# Altium footprint library Texas Instruments Footprints.PcbLib: 429 footprints (part 8 of 32)
Each footprint in its own frame and in the unit in brackets; x right, y up, seen from the top. Pads: shape width x height; smd on the part's side, far side on the other; paste and mask are expansions set on the pad; w line width, h text height; cw(c..) or ccw(c..) is an arc to the next point about the centre after c.
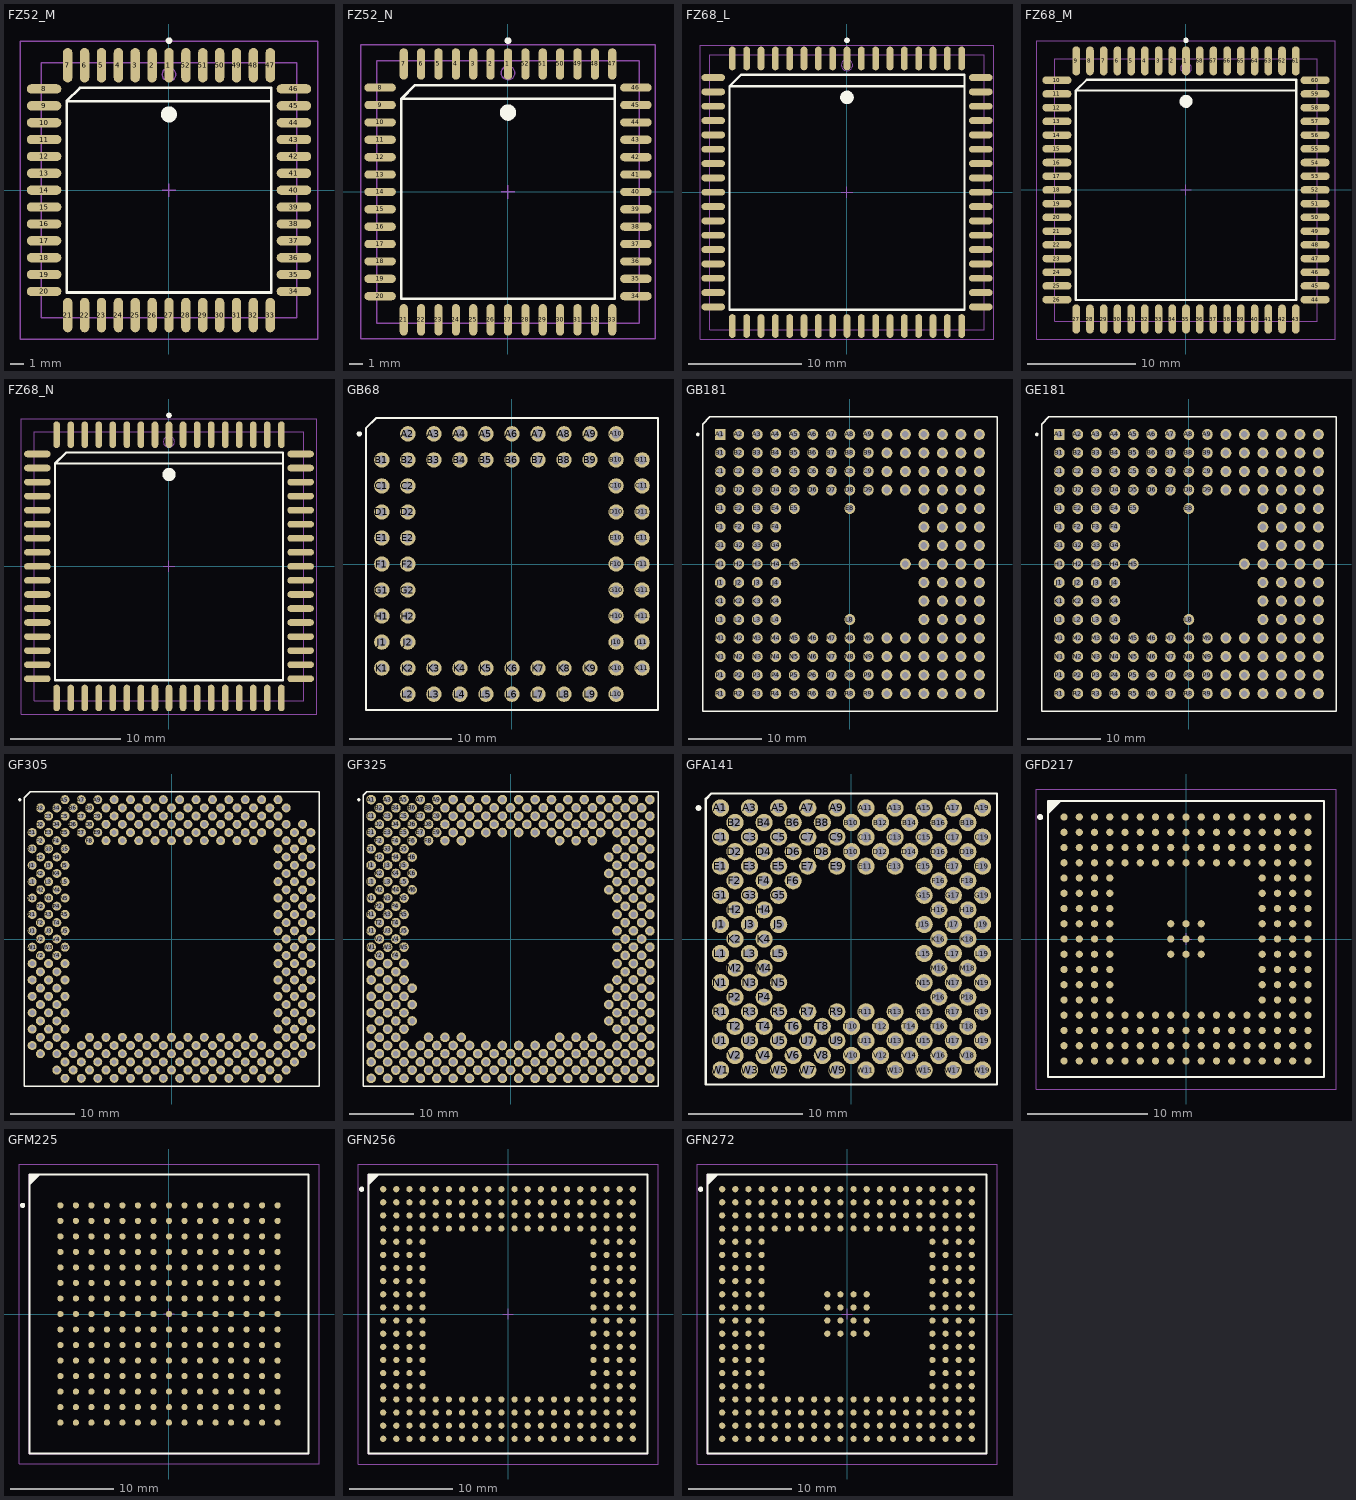
[diagram p7: the footprints below, top view; thin cyan lines are the x and y axes]

## FZ52_M [mm] "52-Pin Leaded Chip Carrier 1.27 mm Pitch, IPC Low Density"
height 4.57
pads (52):
  oval 0.7x2.6 smd: 1(0,9.4) 2(-1.27,9.4) 3(-2.54,9.4) 4(-3.81,9.4) 5(-5.08,9.4) 6(-6.35,9.4) 7(-7.62,9.4) 21(-7.62,-9.4) 22(-6.35,-9.4) 23(-5.08,-9.4) 24(-3.81,-9.4) 25(-2.54,-9.4) 26(-1.27,-9.4) 27(0,-9.4) 28(1.27,-9.4) 29(2.54,-9.4) 30(3.81,-9.4) 31(5.08,-9.4) 32(6.35,-9.4) 33(7.62,-9.4) 47(7.62,9.4) 48(6.35,9.4) 49(5.08,9.4) 50(3.81,9.4) 51(2.54,9.4) 52(1.27,9.4)
  oval 2.6x0.7 smd: 8(-9.4,7.62) 9(-9.4,6.35) 10(-9.4,5.08) 11(-9.4,3.81) 12(-9.4,2.54) 13(-9.4,1.27) 14(-9.4,0) 15(-9.4,-1.27) 16(-9.4,-2.54) 17(-9.4,-3.81) 18(-9.4,-5.08) 19(-9.4,-6.35) 20(-9.4,-7.62) 34(9.4,-7.62) 35(9.4,-6.35) 36(9.4,-5.08) 37(9.4,-3.81) 38(9.4,-2.54) 39(9.4,-1.27) 40(9.4,0) 41(9.4,1.27) 42(9.4,2.54) 43(9.4,3.81) 44(9.4,5.08) 45(9.4,6.35) 46(9.4,7.62)
Top Overlay:
  circle w0.25: c0,11.25 r0.125
  circle w0.6: c0,5.7 r0.3
  lines w0.2: 7.7,6.7 -7.7,6.7 ; -7.7,6.7 -6.7,7.7 7.7,7.7 7.7,-7.7 -7.7,-7.7 -7.7,6.7
Mechanical 13:
  circle w0.1: c0,8.7 r0.5
  lines w0.1: -9.6,-9.6 -9.6,9.6 9.6,9.6 9.6,-9.6 -9.6,-9.6
Mechanical 15:
  lines w0.1: -0.5,0 0.5,0 ; 0,-0.5 0,0.5 ; -11.2,-11.2 -11.2,11.2 11.2,11.2 11.2,-11.2 -11.2,-11.2
3D body: height 4.57, standoff 0, extent -9.6,-9.6 9.6,9.6

## FZ52_N [mm] "52-Pin Leaded Chip Carrier 1.27 mm Pitch, IPC Medium Density"
height 4.57
pads (52):
  oval 0.6x2.3 smd: 1(0,9.35) 2(-1.27,9.35) 3(-2.54,9.35) 4(-3.81,9.35) 5(-5.08,9.35) 6(-6.35,9.35) 7(-7.62,9.35) 21(-7.62,-9.35) 22(-6.35,-9.35) 23(-5.08,-9.35) 24(-3.81,-9.35) 25(-2.54,-9.35) 26(-1.27,-9.35) 27(0,-9.35) 28(1.27,-9.35) 29(2.54,-9.35) 30(3.81,-9.35) 31(5.08,-9.35) 32(6.35,-9.35) 33(7.62,-9.35) 47(7.62,9.35) 48(6.35,9.35) 49(5.08,9.35) 50(3.81,9.35) 51(2.54,9.35) 52(1.27,9.35)
  oval 2.3x0.6 smd: 8(-9.35,7.62) 9(-9.35,6.35) 10(-9.35,5.08) 11(-9.35,3.81) 12(-9.35,2.54) 13(-9.35,1.27) 14(-9.35,0) 15(-9.35,-1.27) 16(-9.35,-2.54) 17(-9.35,-3.81) 18(-9.35,-5.08) 19(-9.35,-6.35) 20(-9.35,-7.62) 34(9.35,-7.62) 35(9.35,-6.35) 36(9.35,-5.08) 37(9.35,-3.81) 38(9.35,-2.54) 39(9.35,-1.27) 40(9.35,0) 41(9.35,1.27) 42(9.35,2.54) 43(9.35,3.81) 44(9.35,5.08) 45(9.35,6.35) 46(9.35,7.62)
Top Overlay:
  circle w0.25: c0,11.05 r0.125
  circle w0.6: c0,5.8 r0.3
  lines w0.2: 7.8,6.8 -7.8,6.8 ; -7.8,6.8 -6.8,7.8 7.8,7.8 7.8,-7.8 -7.8,-7.8 -7.8,6.8
Mechanical 13:
  circle w0.1: c0,8.7 r0.5
  lines w0.1: -9.6,-9.6 -9.6,9.6 9.6,9.6 9.6,-9.6 -9.6,-9.6
Mechanical 15:
  lines w0.1: -0.5,0 0.5,0 ; 0,-0.5 0,0.5 ; -10.75,-10.75 -10.75,10.75 10.75,10.75 10.75,-10.75 -10.75,-10.75
3D body: height 4.57, standoff 0, extent -9.6,-9.6 9.6,9.6

## FZ68_L [mm] "68-Pin Leaded Chip Carrier 1.27 mm Pitch, IPC High Density"
height 4.57
pads (68):
  oval 0.6x2.1 smd: 1(0,11.85) 2(-1.27,11.85) 3(-2.54,11.85) 4(-3.81,11.85) 5(-5.08,11.85) 6(-6.35,11.85) 7(-7.62,11.85) 8(-8.89,11.85) 9(-10.16,11.85) 27(-10.16,-11.85) 28(-8.89,-11.85) 29(-7.62,-11.85) 30(-6.35,-11.85) 31(-5.08,-11.85) 32(-3.81,-11.85) 33(-2.54,-11.85) 34(-1.27,-11.85) 35(0,-11.85) 36(1.27,-11.85) 37(2.54,-11.85) 38(3.81,-11.85) 39(5.08,-11.85) 40(6.35,-11.85) 41(7.62,-11.85) 42(8.89,-11.85) 43(10.16,-11.85) 61(10.16,11.85) 62(8.89,11.85) 63(7.62,11.85) 64(6.35,11.85) 65(5.08,11.85) 66(3.81,11.85) 67(2.54,11.85) 68(1.27,11.85)
  oval 2.1x0.6 smd: 10(-11.85,10.16) 11(-11.85,8.89) 12(-11.85,7.62) 13(-11.85,6.35) 14(-11.85,5.08) 15(-11.85,3.81) 16(-11.85,2.54) 17(-11.85,1.27) 18(-11.85,0) 19(-11.85,-1.27) 20(-11.85,-2.54) 21(-11.85,-3.81) 22(-11.85,-5.08) 23(-11.85,-6.35) 24(-11.85,-7.62) 25(-11.85,-8.89) 26(-11.85,-10.16) 44(11.85,-10.16) 45(11.85,-8.89) 46(11.85,-7.62) 47(11.85,-6.35) 48(11.85,-5.08) 49(11.85,-3.81) 50(11.85,-2.54) 51(11.85,-1.27) 52(11.85,0) 53(11.85,1.27) 54(11.85,2.54) 55(11.85,3.81) 56(11.85,5.08) 57(11.85,6.35) 58(11.85,7.62) 59(11.85,8.89) 60(11.85,10.16)
Top Overlay:
  circle w0.25: c0,13.45 r0.125
  circle w0.6: c0,8.4 r0.3
  lines w0.2: 10.4,9.4 -10.4,9.4 ; -10.4,9.4 -9.4,10.4 10.4,10.4 10.4,-10.4 -10.4,-10.4 -10.4,9.4
Mechanical 13:
  circle w0.1: c0,11.265 r0.5
  lines w0.1: -12.165,-12.165 -12.165,12.165 12.165,12.165 12.165,-12.165 -12.165,-12.165
Mechanical 15:
  lines w0.1: -0.5,0 0.5,0 ; 0,-0.5 0,0.5 ; -13,-13 -13,13 13,13 13,-13 -13,-13
3D body: height 4.57, standoff 0, extent -12.165,-12.165 12.165,12.165

## FZ68_M [mm] "68-Pin Leaded Chip Carrier 1.27 mm Pitch, IPC Low Density"
height 4.57
pads (68):
  oval 0.7x2.7 smd: 1(0,11.95) 2(-1.27,11.95) 3(-2.54,11.95) 4(-3.81,11.95) 5(-5.08,11.95) 6(-6.35,11.95) 7(-7.62,11.95) 8(-8.89,11.95) 9(-10.16,11.95) 27(-10.16,-11.95) 28(-8.89,-11.95) 29(-7.62,-11.95) 30(-6.35,-11.95) 31(-5.08,-11.95) 32(-3.81,-11.95) 33(-2.54,-11.95) 34(-1.27,-11.95) 35(0,-11.95) 36(1.27,-11.95) 37(2.54,-11.95) 38(3.81,-11.95) 39(5.08,-11.95) 40(6.35,-11.95) 41(7.62,-11.95) 42(8.89,-11.95) 43(10.16,-11.95) 61(10.16,11.95) 62(8.89,11.95) 63(7.62,11.95) 64(6.35,11.95) 65(5.08,11.95) 66(3.81,11.95) 67(2.54,11.95) 68(1.27,11.95)
  oval 2.7x0.7 smd: 10(-11.95,10.16) 11(-11.95,8.89) 12(-11.95,7.62) 13(-11.95,6.35) 14(-11.95,5.08) 15(-11.95,3.81) 16(-11.95,2.54) 17(-11.95,1.27) 18(-11.95,0) 19(-11.95,-1.27) 20(-11.95,-2.54) 21(-11.95,-3.81) 22(-11.95,-5.08) 23(-11.95,-6.35) 24(-11.95,-7.62) 25(-11.95,-8.89) 26(-11.95,-10.16) 44(11.95,-10.16) 45(11.95,-8.89) 46(11.95,-7.62) 47(11.95,-6.35) 48(11.95,-5.08) 49(11.95,-3.81) 50(11.95,-2.54) 51(11.95,-1.27) 52(11.95,0) 53(11.95,1.27) 54(11.95,2.54) 55(11.95,3.81) 56(11.95,5.08) 57(11.95,6.35) 58(11.95,7.62) 59(11.95,8.89) 60(11.95,10.16)
Top Overlay:
  circle w0.25: c0,13.85 r0.125
  circle w0.6: c0,8.2 r0.3
  lines w0.2: 10.2,9.2 -10.2,9.2 ; -10.2,9.2 -9.2,10.2 10.2,10.2 10.2,-10.2 -10.2,-10.2 -10.2,9.2
Mechanical 13:
  circle w0.1: c0,11.265 r0.5
  lines w0.1: -12.165,-12.165 -12.165,12.165 12.165,12.165 12.165,-12.165 -12.165,-12.165
Mechanical 15:
  lines w0.1: -0.5,0 0.5,0 ; 0,-0.5 0,0.5 ; -13.8,-13.8 -13.8,13.8 13.8,13.8 13.8,-13.8 -13.8,-13.8
3D body: height 4.57, standoff 0, extent -12.165,-12.165 12.165,12.165

## FZ68_N [mm] "68-Pin Leaded Chip Carrier 1.27 mm Pitch, IPC Medium Density"
height 4.57
pads (68):
  oval 0.6x2.4 smd: 1(0,11.9) 2(-1.27,11.9) 3(-2.54,11.9) 4(-3.81,11.9) 5(-5.08,11.9) 6(-6.35,11.9) 7(-7.62,11.9) 8(-8.89,11.9) 9(-10.16,11.9) 27(-10.16,-11.9) 28(-8.89,-11.9) 29(-7.62,-11.9) 30(-6.35,-11.9) 31(-5.08,-11.9) 32(-3.81,-11.9) 33(-2.54,-11.9) 34(-1.27,-11.9) 35(0,-11.9) 36(1.27,-11.9) 37(2.54,-11.9) 38(3.81,-11.9) 39(5.08,-11.9) 40(6.35,-11.9) 41(7.62,-11.9) 42(8.89,-11.9) 43(10.16,-11.9) 61(10.16,11.9) 62(8.89,11.9) 63(7.62,11.9) 64(6.35,11.9) 65(5.08,11.9) 66(3.81,11.9) 67(2.54,11.9) 68(1.27,11.9)
  oval 2.4x0.6 smd: 10(-11.9,10.16) 11(-11.9,8.89) 12(-11.9,7.62) 13(-11.9,6.35) 14(-11.9,5.08) 15(-11.9,3.81) 16(-11.9,2.54) 17(-11.9,1.27) 18(-11.9,0) 19(-11.9,-1.27) 20(-11.9,-2.54) 21(-11.9,-3.81) 22(-11.9,-5.08) 23(-11.9,-6.35) 24(-11.9,-7.62) 25(-11.9,-8.89) 26(-11.9,-10.16) 44(11.9,-10.16) 45(11.9,-8.89) 46(11.9,-7.62) 47(11.9,-6.35) 48(11.9,-5.08) 49(11.9,-3.81) 50(11.9,-2.54) 51(11.9,-1.27) 52(11.9,0) 53(11.9,1.27) 54(11.9,2.54) 55(11.9,3.81) 56(11.9,5.08) 57(11.9,6.35) 58(11.9,7.62) 59(11.9,8.89) 60(11.9,10.16)
Top Overlay:
  circle w0.25: c0,13.65 r0.125
  circle w0.6: c0,8.3 r0.3
  lines w0.2: 10.3,9.3 -10.3,9.3 ; -10.3,9.3 -9.3,10.3 10.3,10.3 10.3,-10.3 -10.3,-10.3 -10.3,9.3
Mechanical 13:
  circle w0.1: c0,11.265 r0.5
  lines w0.1: -12.165,-12.165 -12.165,12.165 12.165,12.165 12.165,-12.165 -12.165,-12.165
Mechanical 15:
  lines w0.1: -0.5,0 0.5,0 ; 0,-0.5 0,0.5 ; -13.35,-13.35 -13.35,13.35 13.35,13.35 13.35,-13.35 -13.35,-13.35
3D body: height 4.57, standoff 0, extent -12.165,-12.165 12.165,12.165

## GB68 [mm] "68-Pin Pin Grid Array 2.54 mm Pitch"
height 5.27
pads (68):
  round 1.5 hole 0.9: A2(-10.16,12.7) A3(-7.62,12.7) A4(-5.08,12.7) A5(-2.54,12.7) A6(0,12.7) A7(2.54,12.7) A8(5.08,12.7) A9(7.62,12.7) A10(10.16,12.7) B1(-12.7,10.16) B2(-10.16,10.16) B3(-7.62,10.16) B4(-5.08,10.16) B5(-2.54,10.16) B6(0,10.16) B7(2.54,10.16) B8(5.08,10.16) B9(7.62,10.16) B10(10.16,10.16) B11(12.7,10.16) C1(-12.7,7.62) C2(-10.16,7.62) C10(10.16,7.62) C11(12.7,7.62) D1(-12.7,5.08) D2(-10.16,5.08) D10(10.16,5.08) D11(12.7,5.08) E1(-12.7,2.54) E2(-10.16,2.54) E10(10.16,2.54) E11(12.7,2.54) F1(-12.7,0) F2(-10.16,0) F10(10.16,0) F11(12.7,0) G1(-12.7,-2.54) G2(-10.16,-2.54) G10(10.16,-2.54) G11(12.7,-2.54) H1(-12.7,-5.08) H2(-10.16,-5.08) H10(10.16,-5.08) H11(12.7,-5.08) J1(-12.7,-7.62) J2(-10.16,-7.62) J10(10.16,-7.62) J11(12.7,-7.62) K1(-12.7,-10.16) K2(-10.16,-10.16) K3(-7.62,-10.16) K4(-5.08,-10.16) K5(-2.54,-10.16) K6(0,-10.16) K7(2.54,-10.16) K8(5.08,-10.16) K9(7.62,-10.16) K10(10.16,-10.16) K11(12.7,-10.16) L2(-10.16,-12.7) L3(-7.62,-12.7) L4(-5.08,-12.7) L5(-2.54,-12.7) L6(0,-12.7) L7(2.54,-12.7) L8(5.08,-12.7) L9(7.62,-12.7) L10(10.16,-12.7)
Top Overlay:
  circle w0.25: c-14.9,12.7 r0.125
  lines w0.2: -14.25,-14.25 -14.25,13.25 -13.25,14.25 14.25,14.25 14.25,-14.25 -14.25,-14.25

## GB181 [mm] "181-Pin Pin Grid Array 2.54 mm Pitch"
height 4.85
pads (181):
  rect 1.5x1.5 hole 0.9: A1(-17.78,17.78)
  round 1.5 hole 0.9: A2(-15.24,17.78) A3(-12.7,17.78) A4(-10.16,17.78) A5(-7.62,17.78) A6(-5.08,17.78) A7(-2.54,17.78) A8(0,17.78) A9(2.54,17.78) A10(5.08,17.78) A11(7.62,17.78) A12(10.16,17.78) A13(12.7,17.78) A14(15.24,17.78) A15(17.78,17.78) B1(-17.78,15.24) B2(-15.24,15.24) B3(-12.7,15.24) B4(-10.16,15.24) B5(-7.62,15.24) B6(-5.08,15.24) B7(-2.54,15.24) B8(0,15.24) B9(2.54,15.24) B10(5.08,15.24) B11(7.62,15.24) B12(10.16,15.24) B13(12.7,15.24) B14(15.24,15.24) B15(17.78,15.24) C1(-17.78,12.7) C2(-15.24,12.7) C3(-12.7,12.7) C4(-10.16,12.7) C5(-7.62,12.7) C6(-5.08,12.7) C7(-2.54,12.7) C8(0,12.7) C9(2.54,12.7) C10(5.08,12.7) C11(7.62,12.7) C12(10.16,12.7) C13(12.7,12.7) C14(15.24,12.7) C15(17.78,12.7) D1(-17.78,10.16) D2(-15.24,10.16) D3(-12.7,10.16) D4(-10.16,10.16) D5(-7.62,10.16) D6(-5.08,10.16) D7(-2.54,10.16) D8(0,10.16) D9(2.54,10.16) D10(5.08,10.16) D11(7.62,10.16) D12(10.16,10.16) D13(12.7,10.16) D14(15.24,10.16) D15(17.78,10.16) E1(-17.78,7.62) E2(-15.24,7.62) E3(-12.7,7.62) E4(-10.16,7.62) E5(-7.62,7.62) E8(0,7.62) E12(10.16,7.62) E13(12.7,7.62) E14(15.24,7.62) E15(17.78,7.62) F1(-17.78,5.08) F2(-15.24,5.08) F3(-12.7,5.08) F4(-10.16,5.08) F12(10.16,5.08) F13(12.7,5.08) F14(15.24,5.08) F15(17.78,5.08) G1(-17.78,2.54) G2(-15.24,2.54) G3(-12.7,2.54) G4(-10.16,2.54) G12(10.16,2.54) G13(12.7,2.54) G14(15.24,2.54) G15(17.78,2.54) H1(-17.78,0) H2(-15.24,0) H3(-12.7,0) H4(-10.16,0) H5(-7.62,0) H11(7.62,0) H12(10.16,0) H13(12.7,0) H14(15.24,0) H15(17.78,0) J1(-17.78,-2.54) J2(-15.24,-2.54) J3(-12.7,-2.54) J4(-10.16,-2.54) J12(10.16,-2.54) J13(12.7,-2.54) J14(15.24,-2.54) J15(17.78,-2.54) K1(-17.78,-5.08) K2(-15.24,-5.08) K3(-12.7,-5.08) K4(-10.16,-5.08) K12(10.16,-5.08) K13(12.7,-5.08) K14(15.24,-5.08) K15(17.78,-5.08) L1(-17.78,-7.62) L2(-15.24,-7.62) L3(-12.7,-7.62) L4(-10.16,-7.62) L8(0,-7.62) L12(10.16,-7.62) L13(12.7,-7.62) L14(15.24,-7.62) L15(17.78,-7.62) M1(-17.78,-10.16) M2(-15.24,-10.16) M3(-12.7,-10.16) M4(-10.16,-10.16) M5(-7.62,-10.16) M6(-5.08,-10.16) M7(-2.54,-10.16) M8(0,-10.16) M9(2.54,-10.16) M10(5.08,-10.16) M11(7.62,-10.16) M12(10.16,-10.16) M13(12.7,-10.16) M14(15.24,-10.16) M15(17.78,-10.16) N1(-17.78,-12.7) N2(-15.24,-12.7) N3(-12.7,-12.7) N4(-10.16,-12.7) N5(-7.62,-12.7) N6(-5.08,-12.7) N7(-2.54,-12.7) N8(0,-12.7) N9(2.54,-12.7) N10(5.08,-12.7) N11(7.62,-12.7) N12(10.16,-12.7) N13(12.7,-12.7) N14(15.24,-12.7) N15(17.78,-12.7) P1(-17.78,-15.24) P2(-15.24,-15.24) P3(-12.7,-15.24) P4(-10.16,-15.24) P5(-7.62,-15.24) P6(-5.08,-15.24) P7(-2.54,-15.24) P8(0,-15.24) P9(2.54,-15.24) P10(5.08,-15.24) P11(7.62,-15.24) P12(10.16,-15.24) P13(12.7,-15.24) P14(15.24,-15.24) P15(17.78,-15.24) R1(-17.78,-17.78) R2(-15.24,-17.78) R3(-12.7,-17.78) R4(-10.16,-17.78) R5(-7.62,-17.78) R6(-5.08,-17.78) R7(-2.54,-17.78) R8(0,-17.78) R9(2.54,-17.78) R10(5.08,-17.78) R11(7.62,-17.78) R12(10.16,-17.78) R13(12.7,-17.78) R14(15.24,-17.78) R15(17.78,-17.78)
Top Overlay:
  circle w0.25: c-20.85,17.78 r0.125
  lines w0.2: -20.2,-20.2 -20.2,19.2 -19.2,20.2 20.2,20.2 20.2,-20.2 -20.2,-20.2

## GE181 [mm] "181-Pin Pin Grid Array 2.54 mm Pitch"
height 6.22
pads (181):
  rect 1.5x1.5 hole 0.9: A1(-17.78,17.78)
  round 1.5 hole 0.9: A2(-15.24,17.78) A3(-12.7,17.78) A4(-10.16,17.78) A5(-7.62,17.78) A6(-5.08,17.78) A7(-2.54,17.78) A8(0,17.78) A9(2.54,17.78) A10(5.08,17.78) A11(7.62,17.78) A12(10.16,17.78) A13(12.7,17.78) A14(15.24,17.78) A15(17.78,17.78) B1(-17.78,15.24) B2(-15.24,15.24) B3(-12.7,15.24) B4(-10.16,15.24) B5(-7.62,15.24) B6(-5.08,15.24) B7(-2.54,15.24) B8(0,15.24) B9(2.54,15.24) B10(5.08,15.24) B11(7.62,15.24) B12(10.16,15.24) B13(12.7,15.24) B14(15.24,15.24) B15(17.78,15.24) C1(-17.78,12.7) C2(-15.24,12.7) C3(-12.7,12.7) C4(-10.16,12.7) C5(-7.62,12.7) C6(-5.08,12.7) C7(-2.54,12.7) C8(0,12.7) C9(2.54,12.7) C10(5.08,12.7) C11(7.62,12.7) C12(10.16,12.7) C13(12.7,12.7) C14(15.24,12.7) C15(17.78,12.7) D1(-17.78,10.16) D2(-15.24,10.16) D3(-12.7,10.16) D4(-10.16,10.16) D5(-7.62,10.16) D6(-5.08,10.16) D7(-2.54,10.16) D8(0,10.16) D9(2.54,10.16) D10(5.08,10.16) D11(7.62,10.16) D12(10.16,10.16) D13(12.7,10.16) D14(15.24,10.16) D15(17.78,10.16) E1(-17.78,7.62) E2(-15.24,7.62) E3(-12.7,7.62) E4(-10.16,7.62) E5(-7.62,7.62) E8(0,7.62) E12(10.16,7.62) E13(12.7,7.62) E14(15.24,7.62) E15(17.78,7.62) F1(-17.78,5.08) F2(-15.24,5.08) F3(-12.7,5.08) F4(-10.16,5.08) F12(10.16,5.08) F13(12.7,5.08) F14(15.24,5.08) F15(17.78,5.08) G1(-17.78,2.54) G2(-15.24,2.54) G3(-12.7,2.54) G4(-10.16,2.54) G12(10.16,2.54) G13(12.7,2.54) G14(15.24,2.54) G15(17.78,2.54) H1(-17.78,0) H2(-15.24,0) H3(-12.7,0) H4(-10.16,0) H5(-7.62,0) H11(7.62,0) H12(10.16,0) H13(12.7,0) H14(15.24,0) H15(17.78,0) J1(-17.78,-2.54) J2(-15.24,-2.54) J3(-12.7,-2.54) J4(-10.16,-2.54) J12(10.16,-2.54) J13(12.7,-2.54) J14(15.24,-2.54) J15(17.78,-2.54) K1(-17.78,-5.08) K2(-15.24,-5.08) K3(-12.7,-5.08) K4(-10.16,-5.08) K12(10.16,-5.08) K13(12.7,-5.08) K14(15.24,-5.08) K15(17.78,-5.08) L1(-17.78,-7.62) L2(-15.24,-7.62) L3(-12.7,-7.62) L4(-10.16,-7.62) L8(0,-7.62) L12(10.16,-7.62) L13(12.7,-7.62) L14(15.24,-7.62) L15(17.78,-7.62) M1(-17.78,-10.16) M2(-15.24,-10.16) M3(-12.7,-10.16) M4(-10.16,-10.16) M5(-7.62,-10.16) M6(-5.08,-10.16) M7(-2.54,-10.16) M8(0,-10.16) M9(2.54,-10.16) M10(5.08,-10.16) M11(7.62,-10.16) M12(10.16,-10.16) M13(12.7,-10.16) M14(15.24,-10.16) M15(17.78,-10.16) N1(-17.78,-12.7) N2(-15.24,-12.7) N3(-12.7,-12.7) N4(-10.16,-12.7) N5(-7.62,-12.7) N6(-5.08,-12.7) N7(-2.54,-12.7) N8(0,-12.7) N9(2.54,-12.7) N10(5.08,-12.7) N11(7.62,-12.7) N12(10.16,-12.7) N13(12.7,-12.7) N14(15.24,-12.7) N15(17.78,-12.7) P1(-17.78,-15.24) P2(-15.24,-15.24) P3(-12.7,-15.24) P4(-10.16,-15.24) P5(-7.62,-15.24) P6(-5.08,-15.24) P7(-2.54,-15.24) P8(0,-15.24) P9(2.54,-15.24) P10(5.08,-15.24) P11(7.62,-15.24) P12(10.16,-15.24) P13(12.7,-15.24) P14(15.24,-15.24) P15(17.78,-15.24) R1(-17.78,-17.78) R2(-15.24,-17.78) R3(-12.7,-17.78) R4(-10.16,-17.78) R5(-7.62,-17.78) R6(-5.08,-17.78) R7(-2.54,-17.78) R8(0,-17.78) R9(2.54,-17.78) R10(5.08,-17.78) R11(7.62,-17.78) R12(10.16,-17.78) R13(12.7,-17.78) R14(15.24,-17.78) R15(17.78,-17.78)
Top Overlay:
  circle w0.25: c-20.85,17.78 r0.125
  lines w0.2: -20.2,-20.2 -20.2,19.2 -19.2,20.2 20.2,20.2 20.2,-20.2 -20.2,-20.2

## GF305 [mm] "305-Pin Pin Grid Array 2.54 mm Pitch"
height 5.59
pads (305):
  round 1.4 hole 0.8: A5(-16.51,21.59) A7(-13.97,21.59) A9(-11.43,21.59) A11(-8.89,21.59) A13(-6.35,21.59) A15(-3.81,21.59) A17(-1.27,21.59) A19(1.27,21.59) A21(3.81,21.59) A23(6.35,21.59) A25(8.89,21.59) A27(11.43,21.59) A29(13.97,21.59) A31(16.51,21.59) AA1(-21.59,-3.81) AA3(-19.05,-3.81) AA5(-16.51,-3.81) AA31(16.51,-3.81) AA33(19.05,-3.81) AA35(21.59,-3.81) AB2(-20.32,-5.08) AB4(-17.78,-5.08) AB32(17.78,-5.08) AB34(20.32,-5.08) AC1(-21.59,-6.35) AC3(-19.05,-6.35) AC5(-16.51,-6.35) AC31(16.51,-6.35) AC33(19.05,-6.35) AC35(21.59,-6.35) AD2(-20.32,-7.62) AD4(-17.78,-7.62) AD32(17.78,-7.62) AD34(20.32,-7.62) AE1(-21.59,-8.89) AE3(-19.05,-8.89) AE5(-16.51,-8.89) AE31(16.51,-8.89) AE33(19.05,-8.89) AE35(21.59,-8.89) AF2(-20.32,-10.16) AF4(-17.78,-10.16) AF32(17.78,-10.16) AF34(20.32,-10.16) AG1(-21.59,-11.43) AG3(-19.05,-11.43) AG5(-16.51,-11.43) AG31(16.51,-11.43) AG33(19.05,-11.43) AG35(21.59,-11.43) AH2(-20.32,-12.7) AH4(-17.78,-12.7) AH32(17.78,-12.7) AH34(20.32,-12.7) AJ1(-21.59,-13.97) AJ3(-19.05,-13.97) AJ5(-16.51,-13.97) AJ31(16.51,-13.97) AJ33(19.05,-13.97) AJ35(21.59,-13.97) AK2(-20.32,-15.24) AK4(-17.78,-15.24) AK8(-12.7,-15.24) AK10(-10.16,-15.24) AK12(-7.62,-15.24) AK14(-5.08,-15.24) AK16(-2.54,-15.24) AK18(0,-15.24) AK20(2.54,-15.24) AK22(5.08,-15.24) AK24(7.62,-15.24) AK26(10.16,-15.24) AK28(12.7,-15.24) AK32(17.78,-15.24) AK34(20.32,-15.24) AL1(-21.59,-16.51) AL3(-19.05,-16.51) AL5(-16.51,-16.51) AL7(-13.97,-16.51) AL9(-11.43,-16.51) AL11(-8.89,-16.51) AL13(-6.35,-16.51) AL15(-3.81,-16.51) AL17(-1.27,-16.51) AL19(1.27,-16.51) AL21(3.81,-16.51) AL23(6.35,-16.51) AL25(8.89,-16.51) AL27(11.43,-16.51) AL29(13.97,-16.51) AL31(16.51,-16.51) AL33(19.05,-16.51) AL35(21.59,-16.51) AM2(-20.32,-17.78) AM4(-17.78,-17.78) AM6(-15.24,-17.78) AM8(-12.7,-17.78) AM10(-10.16,-17.78) AM12(-7.62,-17.78) AM14(-5.08,-17.78) AM16(-2.54,-17.78) AM18(0,-17.78) AM20(2.54,-17.78) AM22(5.08,-17.78) AM24(7.62,-17.78) AM26(10.16,-17.78) AM28(12.7,-17.78) AM30(15.24,-17.78) AM32(17.78,-17.78) AM34(20.32,-17.78) AN5(-16.51,-19.05) AN7(-13.97,-19.05) AN9(-11.43,-19.05) AN11(-8.89,-19.05) AN13(-6.35,-19.05) AN15(-3.81,-19.05) AN17(-1.27,-19.05) AN19(1.27,-19.05) AN21(3.81,-19.05) AN23(6.35,-19.05) AN25(8.89,-19.05) AN27(11.43,-19.05) AN29(13.97,-19.05) AN31(16.51,-19.05) AN33(19.05,-19.05) AP4(-17.78,-20.32) AP6(-15.24,-20.32) AP8(-12.7,-20.32) AP10(-10.16,-20.32) AP12(-7.62,-20.32) AP14(-5.08,-20.32) AP16(-2.54,-20.32) AP18(0,-20.32) AP20(2.54,-20.32) AP22(5.08,-20.32) AP24(7.62,-20.32) AP26(10.16,-20.32) AP28(12.7,-20.32) AP30(15.24,-20.32) AP32(17.78,-20.32) AR5(-16.51,-21.59) AR7(-13.97,-21.59) AR9(-11.43,-21.59) AR11(-8.89,-21.59) AR13(-6.35,-21.59) AR15(-3.81,-21.59) AR17(-1.27,-21.59) AR19(1.27,-21.59) AR21(3.81,-21.59) AR23(6.35,-21.59) AR25(8.89,-21.59) AR27(11.43,-21.59) AR29(13.97,-21.59) AR31(16.51,-21.59) B2(-20.32,20.32) B4(-17.78,20.32) B6(-15.24,20.32) B8(-12.7,20.32) B10(-10.16,20.32) B12(-7.62,20.32) B14(-5.08,20.32) B16(-2.54,20.32) B18(0,20.32) B20(2.54,20.32) B22(5.08,20.32) B24(7.62,20.32) B26(10.16,20.32) B28(12.7,20.32) B30(15.24,20.32) B32(17.78,20.32) C3(-19.05,19.05) C5(-16.51,19.05) C7(-13.97,19.05) C9(-11.43,19.05) C11(-8.89,19.05) C13(-6.35,19.05) C15(-3.81,19.05) C17(-1.27,19.05) C19(1.27,19.05) C21(3.81,19.05) C23(6.35,19.05) C25(8.89,19.05) C27(11.43,19.05) C29(13.97,19.05) C31(16.51,19.05) D2(-20.32,17.78) D4(-17.78,17.78) D6(-15.24,17.78) D8(-12.7,17.78) D10(-10.16,17.78) D12(-7.62,17.78) D14(-5.08,17.78) D16(-2.54,17.78) D18(0,17.78) D20(2.54,17.78) D22(5.08,17.78) D24(7.62,17.78) D26(10.16,17.78) D28(12.7,17.78) D30(15.24,17.78) D32(17.78,17.78) D34(20.32,17.78) E1(-21.59,16.51) E3(-19.05,16.51) E5(-16.51,16.51) E7(-13.97,16.51) E9(-11.43,16.51) E11(-8.89,16.51) E13(-6.35,16.51) E15(-3.81,16.51) E17(-1.27,16.51) E19(1.27,16.51) E21(3.81,16.51) E23(6.35,16.51) E25(8.89,16.51) E27(11.43,16.51) E29(13.97,16.51) E31(16.51,16.51) E33(19.05,16.51) E35(21.59,16.51) F2(-20.32,15.24) F4(-17.78,15.24) F8(-12.7,15.24) F10(-10.16,15.24) F12(-7.62,15.24) F14(-5.08,15.24) F16(-2.54,15.24) F18(0,15.24) F20(2.54,15.24) F22(5.08,15.24) F24(7.62,15.24) F26(10.16,15.24) F28(12.7,15.24) F32(17.78,15.24) F34(20.32,15.24) G1(-21.59,13.97) G3(-19.05,13.97) G5(-16.51,13.97) G31(16.51,13.97) G33(19.05,13.97) G35(21.59,13.97) H2(-20.32,12.7) H4(-17.78,12.7) H32(17.78,12.7) H34(20.32,12.7) J1(-21.59,11.43) J3(-19.05,11.43) J5(-16.51,11.43) J31(16.51,11.43) J33(19.05,11.43) J35(21.59,11.43) K2(-20.32,10.16) K4(-17.78,10.16) K32(17.78,10.16) K34(20.32,10.16) L1(-21.59,8.89) L3(-19.05,8.89) L5(-16.51,8.89) L31(16.51,8.89) L33(19.05,8.89) L35(21.59,8.89) M2(-20.32,7.62) M4(-17.78,7.62) M32(17.78,7.62) M34(20.32,7.62) N1(-21.59,6.35) N3(-19.05,6.35) N5(-16.51,6.35) N31(16.51,6.35) N33(19.05,6.35) N35(21.59,6.35) P2(-20.32,5.08) P4(-17.78,5.08) P32(17.78,5.08) P34(20.32,5.08) R1(-21.59,3.81) R3(-19.05,3.81) R5(-16.51,3.81) R31(16.51,3.81) R33(19.05,3.81) R35(21.59,3.81) T2(-20.32,2.54) T4(-17.78,2.54) T32(17.78,2.54) T34(20.32,2.54) U1(-21.59,1.27) U3(-19.05,1.27) U5(-16.51,1.27) U31(16.51,1.27) U33(19.05,1.27) U35(21.59,1.27) V2(-20.32,0) V4(-17.78,0) V32(17.78,0) V34(20.32,0) W1(-21.59,-1.27) W3(-19.05,-1.27) W5(-16.51,-1.27) W31(16.51,-1.27) W33(19.05,-1.27) W35(21.59,-1.27) Y2(-20.32,-2.54) Y4(-17.78,-2.54) Y32(17.78,-2.54) Y34(20.32,-2.54)
Top Overlay:
  circle w0.25: c-23.51,21.59 r0.125
  lines w0.2: -22.86,-22.86 -22.86,21.86 -21.86,22.86 22.86,22.86 22.86,-22.86 -22.86,-22.86

## GF325 [mm] "325-Pin Pin Grid Array 2.54 mm Pitch"
height 5.08
pads (325):
  round 1.5 hole 0.9: A1(-21.59,21.59) A3(-19.05,21.59) A5(-16.51,21.59) A7(-13.97,21.59) A9(-11.43,21.59) A11(-8.89,21.59) A13(-6.35,21.59) A15(-3.81,21.59) A17(-1.27,21.59) A19(1.27,21.59) A21(3.81,21.59) A23(6.35,21.59) A25(8.89,21.59) A27(11.43,21.59) A29(13.97,21.59) A31(16.51,21.59) A33(19.05,21.59) A35(21.59,21.59) AA1(-21.59,-3.81) AA3(-19.05,-3.81) AA5(-16.51,-3.81) AA31(16.51,-3.81) AA33(19.05,-3.81) AA35(21.59,-3.81) AB2(-20.32,-5.08) AB4(-17.78,-5.08) AB32(17.78,-5.08) AB34(20.32,-5.08) AC1(-21.59,-6.35) AC3(-19.05,-6.35) AC5(-16.51,-6.35) AC31(16.51,-6.35) AC33(19.05,-6.35) AC35(21.59,-6.35) AD2(-20.32,-7.62) AD4(-17.78,-7.62) AD6(-15.24,-7.62) AD30(15.24,-7.62) AD32(17.78,-7.62) AD34(20.32,-7.62) AE1(-21.59,-8.89) AE3(-19.05,-8.89) AE5(-16.51,-8.89) AE31(16.51,-8.89) AE33(19.05,-8.89) AE35(21.59,-8.89) AF2(-20.32,-10.16) AF4(-17.78,-10.16) AF6(-15.24,-10.16) AF30(15.24,-10.16) AF32(17.78,-10.16) AF34(20.32,-10.16) AG1(-21.59,-11.43) AG3(-19.05,-11.43) AG5(-16.51,-11.43) AG31(16.51,-11.43) AG33(19.05,-11.43) AG35(21.59,-11.43) AH2(-20.32,-12.7) AH4(-17.78,-12.7) AH6(-15.24,-12.7) AH30(15.24,-12.7) AH32(17.78,-12.7) AH34(20.32,-12.7) AJ1(-21.59,-13.97) AJ3(-19.05,-13.97) AJ5(-16.51,-13.97) AJ31(16.51,-13.97) AJ33(19.05,-13.97) AJ35(21.59,-13.97) AK2(-20.32,-15.24) AK4(-17.78,-15.24) AK8(-12.7,-15.24) AK10(-10.16,-15.24) AK12(-7.62,-15.24) AK24(7.62,-15.24) AK26(10.16,-15.24) AK28(12.7,-15.24) AK32(17.78,-15.24) AK34(20.32,-15.24) AL1(-21.59,-16.51) AL3(-19.05,-16.51) AL5(-16.51,-16.51) AL7(-13.97,-16.51) AL9(-11.43,-16.51) AL11(-8.89,-16.51) AL13(-6.35,-16.51) AL15(-3.81,-16.51) AL17(-1.27,-16.51) AL19(1.27,-16.51) AL21(3.81,-16.51) AL23(6.35,-16.51) AL25(8.89,-16.51) AL27(11.43,-16.51) AL29(13.97,-16.51) AL31(16.51,-16.51) AL33(19.05,-16.51) AL35(21.59,-16.51) AM2(-20.32,-17.78) AM4(-17.78,-17.78) AM6(-15.24,-17.78) AM8(-12.7,-17.78) AM10(-10.16,-17.78) AM12(-7.62,-17.78) AM14(-5.08,-17.78) AM16(-2.54,-17.78) AM18(0,-17.78) AM20(2.54,-17.78) AM22(5.08,-17.78) AM24(7.62,-17.78) AM26(10.16,-17.78) AM28(12.7,-17.78) AM30(15.24,-17.78) AM32(17.78,-17.78) AM34(20.32,-17.78) AN1(-21.59,-19.05) AN3(-19.05,-19.05) AN5(-16.51,-19.05) AN7(-13.97,-19.05) AN9(-11.43,-19.05) AN11(-8.89,-19.05) AN13(-6.35,-19.05) AN15(-3.81,-19.05) AN17(-1.27,-19.05) AN19(1.27,-19.05) AN21(3.81,-19.05) AN23(6.35,-19.05) AN25(8.89,-19.05) AN27(11.43,-19.05) AN29(13.97,-19.05) AN31(16.51,-19.05) AN33(19.05,-19.05) AN35(21.59,-19.05) AP2(-20.32,-20.32) AP4(-17.78,-20.32) AP6(-15.24,-20.32) AP8(-12.7,-20.32) AP10(-10.16,-20.32) AP12(-7.62,-20.32) AP14(-5.08,-20.32) AP16(-2.54,-20.32) AP18(0,-20.32) AP20(2.54,-20.32) AP22(5.08,-20.32) AP24(7.62,-20.32) AP26(10.16,-20.32) AP28(12.7,-20.32) AP30(15.24,-20.32) AP32(17.78,-20.32) AP34(20.32,-20.32) AR1(-21.59,-21.59) AR3(-19.05,-21.59) AR5(-16.51,-21.59) AR7(-13.97,-21.59) AR9(-11.43,-21.59) AR11(-8.89,-21.59) AR13(-6.35,-21.59) AR15(-3.81,-21.59) AR17(-1.27,-21.59) AR19(1.27,-21.59) AR21(3.81,-21.59) AR23(6.35,-21.59) AR25(8.89,-21.59) AR27(11.43,-21.59) AR29(13.97,-21.59) AR31(16.51,-21.59) AR33(19.05,-21.59) AR35(21.59,-21.59) B2(-20.32,20.32) B4(-17.78,20.32) B6(-15.24,20.32) B8(-12.7,20.32) B10(-10.16,20.32) B12(-7.62,20.32) B14(-5.08,20.32) B16(-2.54,20.32) B18(0,20.32) B20(2.54,20.32) B22(5.08,20.32) B24(7.62,20.32) B26(10.16,20.32) B28(12.7,20.32) B30(15.24,20.32) B32(17.78,20.32) B34(20.32,20.32) C1(-21.59,19.05) C3(-19.05,19.05) C5(-16.51,19.05) C7(-13.97,19.05) C9(-11.43,19.05) C11(-8.89,19.05) C13(-6.35,19.05) C15(-3.81,19.05) C17(-1.27,19.05) C19(1.27,19.05) C21(3.81,19.05) C23(6.35,19.05) C25(8.89,19.05) C27(11.43,19.05) C29(13.97,19.05) C31(16.51,19.05) C33(19.05,19.05) C35(21.59,19.05) D2(-20.32,17.78) D4(-17.78,17.78) D6(-15.24,17.78) D8(-12.7,17.78) D10(-10.16,17.78) D12(-7.62,17.78) D14(-5.08,17.78) D16(-2.54,17.78) D18(0,17.78) D20(2.54,17.78) D22(5.08,17.78) D24(7.62,17.78) D26(10.16,17.78) D28(12.7,17.78) D30(15.24,17.78) D32(17.78,17.78) D34(20.32,17.78) E1(-21.59,16.51) E3(-19.05,16.51) E5(-16.51,16.51) E7(-13.97,16.51) E9(-11.43,16.51) E11(-8.89,16.51) E13(-6.35,16.51) E15(-3.81,16.51) E17(-1.27,16.51) E19(1.27,16.51) E21(3.81,16.51) E23(6.35,16.51) E25(8.89,16.51) E27(11.43,16.51) E29(13.97,16.51) E31(16.51,16.51) E33(19.05,16.51) E35(21.59,16.51) F2(-20.32,15.24) F4(-17.78,15.24) F6(-15.24,15.24) F8(-12.7,15.24) F10(-10.16,15.24) F12(-7.62,15.24) F24(7.62,15.24) F26(10.16,15.24) F28(12.7,15.24) F32(17.78,15.24) F34(20.32,15.24) G1(-21.59,13.97) G3(-19.05,13.97) G5(-16.51,13.97) G31(16.51,13.97) G33(19.05,13.97) G35(21.59,13.97) H2(-20.32,12.7) H4(-17.78,12.7) H6(-15.24,12.7) H30(15.24,12.7) H32(17.78,12.7) H34(20.32,12.7) J1(-21.59,11.43) J3(-19.05,11.43) J5(-16.51,11.43) J31(16.51,11.43) J33(19.05,11.43) J35(21.59,11.43) K2(-20.32,10.16) K4(-17.78,10.16) K6(-15.24,10.16) K30(15.24,10.16) K32(17.78,10.16) K34(20.32,10.16) L1(-21.59,8.89) L3(-19.05,8.89) L5(-16.51,8.89) L31(16.51,8.89) L33(19.05,8.89) L35(21.59,8.89) M2(-20.32,7.62) M4(-17.78,7.62) M6(-15.24,7.62) M30(15.24,7.62) M32(17.78,7.62) M34(20.32,7.62) N1(-21.59,6.35) N3(-19.05,6.35) N5(-16.51,6.35) N31(16.51,6.35) N33(19.05,6.35) N35(21.59,6.35) P2(-20.32,5.08) P4(-17.78,5.08) P32(17.78,5.08) P34(20.32,5.08) R1(-21.59,3.81) R3(-19.05,3.81) R5(-16.51,3.81) R31(16.51,3.81) R33(19.05,3.81) R35(21.59,3.81) T2(-20.32,2.54) T4(-17.78,2.54) T32(17.78,2.54) T34(20.32,2.54) U1(-21.59,1.27) U3(-19.05,1.27) U5(-16.51,1.27) U31(16.51,1.27) U33(19.05,1.27) U35(21.59,1.27) V2(-20.32,0) V4(-17.78,0) V32(17.78,0) V34(20.32,0) W1(-21.59,-1.27) W3(-19.05,-1.27) W5(-16.51,-1.27) W31(16.51,-1.27) W33(19.05,-1.27) W35(21.59,-1.27) Y2(-20.32,-2.54) Y4(-17.78,-2.54) Y32(17.78,-2.54) Y34(20.32,-2.54)
Top Overlay:
  circle w0.25: c-23.51,21.59 r0.125
  lines w0.2: -22.86,-22.86 -22.86,22.286 -22.286,22.86 22.86,22.86 22.86,-22.86 -22.86,-22.86

## GFA141 [mm] "141-Pin Pin Grid Array 2.54 mm Pitch"
height 4.54
pads (141):
  round 1.5 hole 0.9: A1(-11.43,11.43) A3(-8.89,11.43) A5(-6.35,11.43) A7(-3.81,11.43) A9(-1.27,11.43) A11(1.27,11.43) A13(3.81,11.43) A15(6.35,11.43) A17(8.89,11.43) A19(11.43,11.43) B2(-10.16,10.16) B4(-7.62,10.16) B6(-5.08,10.16) B8(-2.54,10.16) B10(0,10.16) B12(2.54,10.16) B14(5.08,10.16) B16(7.62,10.16) B18(10.16,10.16) C1(-11.43,8.89) C3(-8.89,8.89) C5(-6.35,8.89) C7(-3.81,8.89) C9(-1.27,8.89) C11(1.27,8.89) C13(3.81,8.89) C15(6.35,8.89) C17(8.89,8.89) C19(11.43,8.89) D2(-10.16,7.62) D4(-7.62,7.62) D6(-5.08,7.62) D8(-2.54,7.62) D10(0,7.62) D12(2.54,7.62) D14(5.08,7.62) D16(7.62,7.62) D18(10.16,7.62) E1(-11.43,6.35) E3(-8.89,6.35) E5(-6.35,6.35) E7(-3.81,6.35) E9(-1.27,6.35) E11(1.27,6.35) E13(3.81,6.35) E15(6.35,6.35) E17(8.89,6.35) E19(11.43,6.35) F2(-10.16,5.08) F4(-7.62,5.08) F6(-5.08,5.08) F16(7.62,5.08) F18(10.16,5.08) G1(-11.43,3.81) G3(-8.89,3.81) G5(-6.35,3.81) G15(6.35,3.81) G17(8.89,3.81) G19(11.43,3.81) H2(-10.16,2.54) H4(-7.62,2.54) H16(7.62,2.54) H18(10.16,2.54) J1(-11.43,1.27) J3(-8.89,1.27) J5(-6.35,1.27) J15(6.35,1.27) J17(8.89,1.27) J19(11.43,1.27) K2(-10.16,0) K4(-7.62,0) K16(7.62,0) K18(10.16,0) L1(-11.43,-1.27) L3(-8.89,-1.27) L5(-6.35,-1.27) L15(6.35,-1.27) L17(8.89,-1.27) L19(11.43,-1.27) M2(-10.16,-2.54) M4(-7.62,-2.54) M16(7.62,-2.54) M18(10.16,-2.54) N1(-11.43,-3.81) N3(-8.89,-3.81) N5(-6.35,-3.81) N15(6.35,-3.81) N17(8.89,-3.81) N19(11.43,-3.81) P2(-10.16,-5.08) P4(-7.62,-5.08) P16(7.62,-5.08) P18(10.16,-5.08) R1(-11.43,-6.35) R3(-8.89,-6.35) R5(-6.35,-6.35) R7(-3.81,-6.35) R9(-1.27,-6.35) R11(1.27,-6.35) R13(3.81,-6.35) R15(6.35,-6.35) R17(8.89,-6.35) R19(11.43,-6.35) T2(-10.16,-7.62) T4(-7.62,-7.62) T6(-5.08,-7.62) T8(-2.54,-7.62) T10(0,-7.62) T12(2.54,-7.62) T14(5.08,-7.62) T16(7.62,-7.62) T18(10.16,-7.62) U1(-11.43,-8.89) U3(-8.89,-8.89) U5(-6.35,-8.89) U7(-3.81,-8.89) U9(-1.27,-8.89) U11(1.27,-8.89) U13(3.81,-8.89) U15(6.35,-8.89) U17(8.89,-8.89) U19(11.43,-8.89) V2(-10.16,-10.16) V4(-7.62,-10.16) V6(-5.08,-10.16) V8(-2.54,-10.16) V10(0,-10.16) V12(2.54,-10.16) V14(5.08,-10.16) V16(7.62,-10.16) V18(10.16,-10.16) W1(-11.43,-11.43) W3(-8.89,-11.43) W5(-6.35,-11.43) W7(-3.81,-11.43) W9(-1.27,-11.43) W11(1.27,-11.43) W13(3.81,-11.43) W15(6.35,-11.43) W17(8.89,-11.43) W19(11.43,-11.43)
Top Overlay:
  circle w0.25: c-13.35,11.43 r0.125
  lines w0.2: -12.7,-12.7 12.7,-12.7 12.7,12.7 -12.226,12.7 -12.7,12.226 -12.7,-12.7

## GFD217 [mm] "217-Ball Ball Grid Array 1.27 mm Pitch"
height 2.54
pads (217):
  round 0.6 smd: A1(-10.16,10.16) A2(-8.89,10.16) A3(-7.62,10.16) A4(-6.35,10.16) A5(-5.08,10.16) A6(-3.81,10.16) A7(-2.54,10.16) A8(-1.27,10.16) A9(0,10.16) A10(1.27,10.16) A11(2.54,10.16) A12(3.81,10.16) A13(5.08,10.16) A14(6.35,10.16) A15(7.62,10.16) A16(8.89,10.16) A17(10.16,10.16) B1(-10.16,8.89) B2(-8.89,8.89) B3(-7.62,8.89) B4(-6.35,8.89) B5(-5.08,8.89) B6(-3.81,8.89) B7(-2.54,8.89) B8(-1.27,8.89) B9(0,8.89) B10(1.27,8.89) B11(2.54,8.89) B12(3.81,8.89) B13(5.08,8.89) B14(6.35,8.89) B15(7.62,8.89) B16(8.89,8.89) B17(10.16,8.89) C1(-10.16,7.62) C2(-8.89,7.62) C3(-7.62,7.62) C4(-6.35,7.62) C5(-5.08,7.62) C6(-3.81,7.62) C7(-2.54,7.62) C8(-1.27,7.62) C9(0,7.62) C10(1.27,7.62) C11(2.54,7.62) C12(3.81,7.62) C13(5.08,7.62) C14(6.35,7.62) C15(7.62,7.62) C16(8.89,7.62) C17(10.16,7.62) D1(-10.16,6.35) D2(-8.89,6.35) D3(-7.62,6.35) D4(-6.35,6.35) D5(-5.08,6.35) D6(-3.81,6.35) D7(-2.54,6.35) D8(-1.27,6.35) D9(0,6.35) D10(1.27,6.35) D11(2.54,6.35) D12(3.81,6.35) D13(5.08,6.35) D14(6.35,6.35) D15(7.62,6.35) D16(8.89,6.35) D17(10.16,6.35) E1(-10.16,5.08) E2(-8.89,5.08) E3(-7.62,5.08) E4(-6.35,5.08) E14(6.35,5.08) E15(7.62,5.08) E16(8.89,5.08) E17(10.16,5.08) F1(-10.16,3.81) F2(-8.89,3.81) F3(-7.62,3.81) F4(-6.35,3.81) F14(6.35,3.81) F15(7.62,3.81) F16(8.89,3.81) F17(10.16,3.81) G1(-10.16,2.54) G2(-8.89,2.54) G3(-7.62,2.54) G4(-6.35,2.54) G14(6.35,2.54) G15(7.62,2.54) G16(8.89,2.54) G17(10.16,2.54) H1(-10.16,1.27) H2(-8.89,1.27) H3(-7.62,1.27) H4(-6.35,1.27) H8(-1.27,1.27) H9(0,1.27) H10(1.27,1.27) H14(6.35,1.27) H15(7.62,1.27) H16(8.89,1.27) H17(10.16,1.27) J1(-10.16,0) J2(-8.89,0) J3(-7.62,0) J4(-6.35,0) J8(-1.27,0) J9(0,0) J10(1.27,0) J14(6.35,0) J15(7.62,0) J16(8.89,0) J17(10.16,0) K1(-10.16,-1.27) K2(-8.89,-1.27) K3(-7.62,-1.27) K4(-6.35,-1.27) K8(-1.27,-1.27) K9(0,-1.27) K10(1.27,-1.27) K14(6.35,-1.27) K15(7.62,-1.27) K16(8.89,-1.27) K17(10.16,-1.27) L1(-10.16,-2.54) L2(-8.89,-2.54) L3(-7.62,-2.54) L4(-6.35,-2.54) L14(6.35,-2.54) L15(7.62,-2.54) L16(8.89,-2.54) L17(10.16,-2.54) M1(-10.16,-3.81) M2(-8.89,-3.81) M3(-7.62,-3.81) M4(-6.35,-3.81) M14(6.35,-3.81) M15(7.62,-3.81) M16(8.89,-3.81) M17(10.16,-3.81) N1(-10.16,-5.08) N2(-8.89,-5.08) N3(-7.62,-5.08) N4(-6.35,-5.08) N14(6.35,-5.08) N15(7.62,-5.08) N16(8.89,-5.08) N17(10.16,-5.08) P1(-10.16,-6.35) P2(-8.89,-6.35) P3(-7.62,-6.35) P4(-6.35,-6.35) P5(-5.08,-6.35) P6(-3.81,-6.35) P7(-2.54,-6.35) P8(-1.27,-6.35) P9(0,-6.35) P10(1.27,-6.35) P11(2.54,-6.35) P12(3.81,-6.35) P13(5.08,-6.35) P14(6.35,-6.35) P15(7.62,-6.35) P16(8.89,-6.35) P17(10.16,-6.35) R1(-10.16,-7.62) R2(-8.89,-7.62) R3(-7.62,-7.62) R4(-6.35,-7.62) R5(-5.08,-7.62) R6(-3.81,-7.62) R7(-2.54,-7.62) R8(-1.27,-7.62) R9(0,-7.62) R10(1.27,-7.62) R11(2.54,-7.62) R12(3.81,-7.62) R13(5.08,-7.62) R14(6.35,-7.62) R15(7.62,-7.62) R16(8.89,-7.62) R17(10.16,-7.62) T1(-10.16,-8.89) T2(-8.89,-8.89) T3(-7.62,-8.89) T4(-6.35,-8.89) T5(-5.08,-8.89) T6(-3.81,-8.89) T7(-2.54,-8.89) T8(-1.27,-8.89) T9(0,-8.89) T10(1.27,-8.89) T11(2.54,-8.89) T12(3.81,-8.89) T13(5.08,-8.89) T14(6.35,-8.89) T15(7.62,-8.89) T16(8.89,-8.89) T17(10.16,-8.89) U1(-10.16,-10.16) U2(-8.89,-10.16) U3(-7.62,-10.16) U4(-6.35,-10.16) U5(-5.08,-10.16) U6(-3.81,-10.16) U7(-2.54,-10.16) U8(-1.27,-10.16) U9(0,-10.16) U10(1.27,-10.16) U11(2.54,-10.16) U12(3.81,-10.16) U13(5.08,-10.16) U14(6.35,-10.16) U15(7.62,-10.16) U16(8.89,-10.16) U17(10.16,-10.16)
Top Overlay:
  circle w0.25: c-12.15,10.16 r0.125
  region: -10.5,11.5 -11.5,10.5 -11.5,11.5
  lines w0.2: -11.5,10.5 -10.5,11.5 ; -11.5,-11.5 11.5,-11.5 11.5,11.5 -11.5,11.5 -11.5,-11.5
Mechanical 13:
  lines w0.1: -11.5,-11.5 11.5,-11.5 11.5,11.5 -11.5,11.5 -11.5,-11.5
Mechanical 15:
  lines w0.1: -0.5,0 0.5,0 ; 0,-0.5 0,0.5 ; -12.5,-12.5 12.5,-12.5 12.5,12.5 -12.5,12.5 -12.5,-12.5
3D body: height 2.54, standoff 0, extent -11.5,-11.5 11.5,11.5

## GFM225 [mm] "225-Ball Ball Grid Array 1.5 mm Pitch"
height 2.13
pads (225):
  round 0.6 smd: A1(-10.5,10.5) A2(-9,10.5) A3(-7.5,10.5) A4(-6,10.5) A5(-4.5,10.5) A6(-3,10.5) A7(-1.5,10.5) A8(0,10.5) A9(1.5,10.5) A10(3,10.5) A11(4.5,10.5) A12(6,10.5) A13(7.5,10.5) A14(9,10.5) A15(10.5,10.5) B1(-10.5,9) B2(-9,9) B3(-7.5,9) B4(-6,9) B5(-4.5,9) B6(-3,9) B7(-1.5,9) B8(0,9) B9(1.5,9) B10(3,9) B11(4.5,9) B12(6,9) B13(7.5,9) B14(9,9) B15(10.5,9) C1(-10.5,7.5) C2(-9,7.5) C3(-7.5,7.5) C4(-6,7.5) C5(-4.5,7.5) C6(-3,7.5) C7(-1.5,7.5) C8(0,7.5) C9(1.5,7.5) C10(3,7.5) C11(4.5,7.5) C12(6,7.5) C13(7.5,7.5) C14(9,7.5) C15(10.5,7.5) D1(-10.5,6) D2(-9,6) D3(-7.5,6) D4(-6,6) D5(-4.5,6) D6(-3,6) D7(-1.5,6) D8(0,6) D9(1.5,6) D10(3,6) D11(4.5,6) D12(6,6) D13(7.5,6) D14(9,6) D15(10.5,6) E1(-10.5,4.5) E2(-9,4.5) E3(-7.5,4.5) E4(-6,4.5) E5(-4.5,4.5) E6(-3,4.5) E7(-1.5,4.5) E8(0,4.5) E9(1.5,4.5) E10(3,4.5) E11(4.5,4.5) E12(6,4.5) E13(7.5,4.5) E14(9,4.5) E15(10.5,4.5) F1(-10.5,3) F2(-9,3) F3(-7.5,3) F4(-6,3) F5(-4.5,3) F6(-3,3) F7(-1.5,3) F8(0,3) F9(1.5,3) F10(3,3) F11(4.5,3) F12(6,3) F13(7.5,3) F14(9,3) F15(10.5,3) G1(-10.5,1.5) G2(-9,1.5) G3(-7.5,1.5) G4(-6,1.5) G5(-4.5,1.5) G6(-3,1.5) G7(-1.5,1.5) G8(0,1.5) G9(1.5,1.5) G10(3,1.5) G11(4.5,1.5) G12(6,1.5) G13(7.5,1.5) G14(9,1.5) G15(10.5,1.5) H1(-10.5,0) H2(-9,0) H3(-7.5,0) H4(-6,0) H5(-4.5,0) H6(-3,0) H7(-1.5,0) H8(0,0) H9(1.5,0) H10(3,0) H11(4.5,0) H12(6,0) H13(7.5,0) H14(9,0) H15(10.5,0) J1(-10.5,-1.5) J2(-9,-1.5) J3(-7.5,-1.5) J4(-6,-1.5) J5(-4.5,-1.5) J6(-3,-1.5) J7(-1.5,-1.5) J8(0,-1.5) J9(1.5,-1.5) J10(3,-1.5) J11(4.5,-1.5) J12(6,-1.5) J13(7.5,-1.5) J14(9,-1.5) J15(10.5,-1.5) K1(-10.5,-3) K2(-9,-3) K3(-7.5,-3) K4(-6,-3) K5(-4.5,-3) K6(-3,-3) K7(-1.5,-3) K8(0,-3) K9(1.5,-3) K10(3,-3) K11(4.5,-3) K12(6,-3) K13(7.5,-3) K14(9,-3) K15(10.5,-3) L1(-10.5,-4.5) L2(-9,-4.5) L3(-7.5,-4.5) L4(-6,-4.5) L5(-4.5,-4.5) L6(-3,-4.5) L7(-1.5,-4.5) L8(0,-4.5) L9(1.5,-4.5) L10(3,-4.5) L11(4.5,-4.5) L12(6,-4.5) L13(7.5,-4.5) L14(9,-4.5) L15(10.5,-4.5) M1(-10.5,-6) M2(-9,-6) M3(-7.5,-6) M4(-6,-6) M5(-4.5,-6) M6(-3,-6) M7(-1.5,-6) M8(0,-6) M9(1.5,-6) M10(3,-6) M11(4.5,-6) M12(6,-6) M13(7.5,-6) M14(9,-6) M15(10.5,-6) N1(-10.5,-7.5) N2(-9,-7.5) N3(-7.5,-7.5) N4(-6,-7.5) N5(-4.5,-7.5) N6(-3,-7.5) N7(-1.5,-7.5) N8(0,-7.5) N9(1.5,-7.5) N10(3,-7.5) N11(4.5,-7.5) N12(6,-7.5) N13(7.5,-7.5) N14(9,-7.5) N15(10.5,-7.5) P1(-10.5,-9) P2(-9,-9) P3(-7.5,-9) P4(-6,-9) P5(-4.5,-9) P6(-3,-9) P7(-1.5,-9) P8(0,-9) P9(1.5,-9) P10(3,-9) P11(4.5,-9) P12(6,-9) P13(7.5,-9) P14(9,-9) P15(10.5,-9) R1(-10.5,-10.5) R2(-9,-10.5) R3(-7.5,-10.5) R4(-6,-10.5) R5(-4.5,-10.5) R6(-3,-10.5) R7(-1.5,-10.5) R8(0,-10.5) R9(1.5,-10.5) R10(3,-10.5) R11(4.5,-10.5) R12(6,-10.5) R13(7.5,-10.5) R14(9,-10.5) R15(10.5,-10.5)
Top Overlay:
  circle w0.25: c-14.15,10.5 r0.125
  region: -12.5,13.5 -13.5,12.5 -13.5,13.5
  lines w0.2: -13.5,12.5 -12.5,13.5 ; -13.5,-13.5 13.5,-13.5 13.5,13.5 -13.5,13.5 -13.5,-13.5
Mechanical 13:
  lines w0.1: -13.5,-13.5 13.5,-13.5 13.5,13.5 -13.5,13.5 -13.5,-13.5
Mechanical 15:
  lines w0.1: -0.5,0 0.5,0 ; 0,-0.5 0,0.5 ; -14.5,-14.5 14.5,-14.5 14.5,14.5 -14.5,14.5 -14.5,-14.5
3D body: height 2.13, standoff 0, extent -13.5,-13.5 13.5,13.5

## GFN256 [mm] "256-Ball Ball Grid Array 1.27 mm Pitch"
height 2.32
pads (256):
  round 0.6 smd: A1(-12.065,12.065) A2(-10.795,12.065) A3(-9.525,12.065) A4(-8.255,12.065) A5(-6.985,12.065) A6(-5.715,12.065) A7(-4.445,12.065) A8(-3.175,12.065) A9(-1.905,12.065) A10(-0.635,12.065) A11(0.635,12.065) A12(1.905,12.065) A13(3.175,12.065) A14(4.445,12.065) A15(5.715,12.065) A16(6.985,12.065) A17(8.255,12.065) A18(9.525,12.065) A19(10.795,12.065) A20(12.065,12.065) B1(-12.065,10.795) B2(-10.795,10.795) B3(-9.525,10.795) B4(-8.255,10.795) B5(-6.985,10.795) B6(-5.715,10.795) B7(-4.445,10.795) B8(-3.175,10.795) B9(-1.905,10.795) B10(-0.635,10.795) B11(0.635,10.795) B12(1.905,10.795) B13(3.175,10.795) B14(4.445,10.795) B15(5.715,10.795) B16(6.985,10.795) B17(8.255,10.795) B18(9.525,10.795) B19(10.795,10.795) B20(12.065,10.795) C1(-12.065,9.525) C2(-10.795,9.525) C3(-9.525,9.525) C4(-8.255,9.525) C5(-6.985,9.525) C6(-5.715,9.525) C7(-4.445,9.525) C8(-3.175,9.525) C9(-1.905,9.525) C10(-0.635,9.525) C11(0.635,9.525) C12(1.905,9.525) C13(3.175,9.525) C14(4.445,9.525) C15(5.715,9.525) C16(6.985,9.525) C17(8.255,9.525) C18(9.525,9.525) C19(10.795,9.525) C20(12.065,9.525) D1(-12.065,8.255) D2(-10.795,8.255) D3(-9.525,8.255) D4(-8.255,8.255) D5(-6.985,8.255) D6(-5.715,8.255) D7(-4.445,8.255) D8(-3.175,8.255) D9(-1.905,8.255) D10(-0.635,8.255) D11(0.635,8.255) D12(1.905,8.255) D13(3.175,8.255) D14(4.445,8.255) D15(5.715,8.255) D16(6.985,8.255) D17(8.255,8.255) D18(9.525,8.255) D19(10.795,8.255) D20(12.065,8.255) E1(-12.065,6.985) E2(-10.795,6.985) E3(-9.525,6.985) E4(-8.255,6.985) E17(8.255,6.985) E18(9.525,6.985) E19(10.795,6.985) E20(12.065,6.985) F1(-12.065,5.715) F2(-10.795,5.715) F3(-9.525,5.715) F4(-8.255,5.715) F17(8.255,5.715) F18(9.525,5.715) F19(10.795,5.715) F20(12.065,5.715) G1(-12.065,4.445) G2(-10.795,4.445) G3(-9.525,4.445) G4(-8.255,4.445) G17(8.255,4.445) G18(9.525,4.445) G19(10.795,4.445) G20(12.065,4.445) H1(-12.065,3.175) H2(-10.795,3.175) H3(-9.525,3.175) H4(-8.255,3.175) H17(8.255,3.175) H18(9.525,3.175) H19(10.795,3.175) H20(12.065,3.175) J1(-12.065,1.905) J2(-10.795,1.905) J3(-9.525,1.905) J4(-8.255,1.905) J17(8.255,1.905) J18(9.525,1.905) J19(10.795,1.905) J20(12.065,1.905) K1(-12.065,0.635) K2(-10.795,0.635) K3(-9.525,0.635) K4(-8.255,0.635) K17(8.255,0.635) K18(9.525,0.635) K19(10.795,0.635) K20(12.065,0.635) L1(-12.065,-0.635) L2(-10.795,-0.635) L3(-9.525,-0.635) L4(-8.255,-0.635) L17(8.255,-0.635) L18(9.525,-0.635) L19(10.795,-0.635) L20(12.065,-0.635) M1(-12.065,-1.905) M2(-10.795,-1.905) M3(-9.525,-1.905) M4(-8.255,-1.905) M17(8.255,-1.905) M18(9.525,-1.905) M19(10.795,-1.905) M20(12.065,-1.905) N1(-12.065,-3.175) N2(-10.795,-3.175) N3(-9.525,-3.175) N4(-8.255,-3.175) N17(8.255,-3.175) N18(9.525,-3.175) N19(10.795,-3.175) N20(12.065,-3.175) P1(-12.065,-4.445) P2(-10.795,-4.445) P3(-9.525,-4.445) P4(-8.255,-4.445) P17(8.255,-4.445) P18(9.525,-4.445) P19(10.795,-4.445) P20(12.065,-4.445) R1(-12.065,-5.715) R2(-10.795,-5.715) R3(-9.525,-5.715) R4(-8.255,-5.715) R17(8.255,-5.715) R18(9.525,-5.715) R19(10.795,-5.715) R20(12.065,-5.715) T1(-12.065,-6.985) T2(-10.795,-6.985) T3(-9.525,-6.985) T4(-8.255,-6.985) T17(8.255,-6.985) T18(9.525,-6.985) T19(10.795,-6.985) T20(12.065,-6.985) U1(-12.065,-8.255) U2(-10.795,-8.255) U3(-9.525,-8.255) U4(-8.255,-8.255) U5(-6.985,-8.255) U6(-5.715,-8.255) U7(-4.445,-8.255) U8(-3.175,-8.255) U9(-1.905,-8.255) U10(-0.635,-8.255) U11(0.635,-8.255) U12(1.905,-8.255) U13(3.175,-8.255) U14(4.445,-8.255) U15(5.715,-8.255) U16(6.985,-8.255) U17(8.255,-8.255) U18(9.525,-8.255) U19(10.795,-8.255) U20(12.065,-8.255) V1(-12.065,-9.525) V2(-10.795,-9.525) V3(-9.525,-9.525) V4(-8.255,-9.525) V5(-6.985,-9.525) V6(-5.715,-9.525) V7(-4.445,-9.525) V8(-3.175,-9.525) V9(-1.905,-9.525) V10(-0.635,-9.525) V11(0.635,-9.525) V12(1.905,-9.525) V13(3.175,-9.525) V14(4.445,-9.525) V15(5.715,-9.525) V16(6.985,-9.525) V17(8.255,-9.525) V18(9.525,-9.525) V19(10.795,-9.525) V20(12.065,-9.525) W1(-12.065,-10.795) W2(-10.795,-10.795) W3(-9.525,-10.795) W4(-8.255,-10.795) W5(-6.985,-10.795) W6(-5.715,-10.795) W7(-4.445,-10.795) W8(-3.175,-10.795) W9(-1.905,-10.795) W10(-0.635,-10.795) W11(0.635,-10.795) W12(1.905,-10.795) W13(3.175,-10.795) W14(4.445,-10.795) W15(5.715,-10.795) W16(6.985,-10.795) W17(8.255,-10.795) W18(9.525,-10.795) W19(10.795,-10.795) W20(12.065,-10.795) Y1(-12.065,-12.065) Y2(-10.795,-12.065) Y3(-9.525,-12.065) Y4(-8.255,-12.065) Y5(-6.985,-12.065) Y6(-5.715,-12.065) Y7(-4.445,-12.065) Y8(-3.175,-12.065) Y9(-1.905,-12.065) Y10(-0.635,-12.065) Y11(0.635,-12.065) Y12(1.905,-12.065) Y13(3.175,-12.065) Y14(4.445,-12.065) Y15(5.715,-12.065) Y16(6.985,-12.065) Y17(8.255,-12.065) Y18(9.525,-12.065) Y19(10.795,-12.065) Y20(12.065,-12.065)
Top Overlay:
  circle w0.25: c-14.15,12.065 r0.125
  region: -12.5,13.5 -13.5,12.5 -13.5,13.5
  lines w0.2: -13.5,12.5 -12.5,13.5 ; -13.5,-13.5 13.5,-13.5 13.5,13.5 -13.5,13.5 -13.5,-13.5
Mechanical 13:
  lines w0.1: -13.5,-13.5 13.5,-13.5 13.5,13.5 -13.5,13.5 -13.5,-13.5
Mechanical 15:
  lines w0.1: -0.5,0 0.5,0 ; 0,-0.5 0,0.5 ; -14.5,-14.5 14.5,-14.5 14.5,14.5 -14.5,14.5 -14.5,-14.5
3D body: height 2.32, standoff 0, extent -13.5,-13.5 13.5,13.5

## GFN272 [mm] "272-Ball Ball Grid Array 1.27 mm Pitch"
height 2.32
pads (272):
  round 0.6 smd: A1(-12.065,12.065) A2(-10.795,12.065) A3(-9.525,12.065) A4(-8.255,12.065) A5(-6.985,12.065) A6(-5.715,12.065) A7(-4.445,12.065) A8(-3.175,12.065) A9(-1.905,12.065) A10(-0.635,12.065) A11(0.635,12.065) A12(1.905,12.065) A13(3.175,12.065) A14(4.445,12.065) A15(5.715,12.065) A16(6.985,12.065) A17(8.255,12.065) A18(9.525,12.065) A19(10.795,12.065) A20(12.065,12.065) B1(-12.065,10.795) B2(-10.795,10.795) B3(-9.525,10.795) B4(-8.255,10.795) B5(-6.985,10.795) B6(-5.715,10.795) B7(-4.445,10.795) B8(-3.175,10.795) B9(-1.905,10.795) B10(-0.635,10.795) B11(0.635,10.795) B12(1.905,10.795) B13(3.175,10.795) B14(4.445,10.795) B15(5.715,10.795) B16(6.985,10.795) B17(8.255,10.795) B18(9.525,10.795) B19(10.795,10.795) B20(12.065,10.795) C1(-12.065,9.525) C2(-10.795,9.525) C3(-9.525,9.525) C4(-8.255,9.525) C5(-6.985,9.525) C6(-5.715,9.525) C7(-4.445,9.525) C8(-3.175,9.525) C9(-1.905,9.525) C10(-0.635,9.525) C11(0.635,9.525) C12(1.905,9.525) C13(3.175,9.525) C14(4.445,9.525) C15(5.715,9.525) C16(6.985,9.525) C17(8.255,9.525) C18(9.525,9.525) C19(10.795,9.525) C20(12.065,9.525) D1(-12.065,8.255) D2(-10.795,8.255) D3(-9.525,8.255) D4(-8.255,8.255) D5(-6.985,8.255) D6(-5.715,8.255) D7(-4.445,8.255) D8(-3.175,8.255) D9(-1.905,8.255) D10(-0.635,8.255) D11(0.635,8.255) D12(1.905,8.255) D13(3.175,8.255) D14(4.445,8.255) D15(5.715,8.255) D16(6.985,8.255) D17(8.255,8.255) D18(9.525,8.255) D19(10.795,8.255) D20(12.065,8.255) E1(-12.065,6.985) E2(-10.795,6.985) E3(-9.525,6.985) E4(-8.255,6.985) E17(8.255,6.985) E18(9.525,6.985) E19(10.795,6.985) E20(12.065,6.985) F1(-12.065,5.715) F2(-10.795,5.715) F3(-9.525,5.715) F4(-8.255,5.715) F17(8.255,5.715) F18(9.525,5.715) F19(10.795,5.715) F20(12.065,5.715) G1(-12.065,4.445) G2(-10.795,4.445) G3(-9.525,4.445) G4(-8.255,4.445) G17(8.255,4.445) G18(9.525,4.445) G19(10.795,4.445) G20(12.065,4.445) H1(-12.065,3.175) H2(-10.795,3.175) H3(-9.525,3.175) H4(-8.255,3.175) H17(8.255,3.175) H18(9.525,3.175) H19(10.795,3.175) H20(12.065,3.175) J1(-12.065,1.905) J2(-10.795,1.905) J3(-9.525,1.905) J4(-8.255,1.905) J9(-1.905,1.905) J10(-0.635,1.905) J11(0.635,1.905) J12(1.905,1.905) J17(8.255,1.905) J18(9.525,1.905) J19(10.795,1.905) J20(12.065,1.905) K1(-12.065,0.635) K2(-10.795,0.635) K3(-9.525,0.635) K4(-8.255,0.635) K9(-1.905,0.635) K10(-0.635,0.635) K11(0.635,0.635) K12(1.905,0.635) K17(8.255,0.635) K18(9.525,0.635) K19(10.795,0.635) K20(12.065,0.635) L1(-12.065,-0.635) L2(-10.795,-0.635) L3(-9.525,-0.635) L4(-8.255,-0.635) L9(-1.905,-0.635) L10(-0.635,-0.635) L11(0.635,-0.635) L12(1.905,-0.635) L17(8.255,-0.635) L18(9.525,-0.635) L19(10.795,-0.635) L20(12.065,-0.635) M1(-12.065,-1.905) M2(-10.795,-1.905) M3(-9.525,-1.905) M4(-8.255,-1.905) M9(-1.905,-1.905) M10(-0.635,-1.905) M11(0.635,-1.905) M12(1.905,-1.905) M17(8.255,-1.905) M18(9.525,-1.905) M19(10.795,-1.905) M20(12.065,-1.905) N1(-12.065,-3.175) N2(-10.795,-3.175) N3(-9.525,-3.175) N4(-8.255,-3.175) N17(8.255,-3.175) N18(9.525,-3.175) N19(10.795,-3.175) N20(12.065,-3.175) P1(-12.065,-4.445) P2(-10.795,-4.445) P3(-9.525,-4.445) P4(-8.255,-4.445) P17(8.255,-4.445) P18(9.525,-4.445) P19(10.795,-4.445) P20(12.065,-4.445) R1(-12.065,-5.715) R2(-10.795,-5.715) R3(-9.525,-5.715) R4(-8.255,-5.715) R17(8.255,-5.715) R18(9.525,-5.715) R19(10.795,-5.715) R20(12.065,-5.715) T1(-12.065,-6.985) T2(-10.795,-6.985) T3(-9.525,-6.985) T4(-8.255,-6.985) T17(8.255,-6.985) T18(9.525,-6.985) T19(10.795,-6.985) T20(12.065,-6.985) U1(-12.065,-8.255) U2(-10.795,-8.255) U3(-9.525,-8.255) U4(-8.255,-8.255) U5(-6.985,-8.255) U6(-5.715,-8.255) U7(-4.445,-8.255) U8(-3.175,-8.255) U9(-1.905,-8.255) U10(-0.635,-8.255) U11(0.635,-8.255) U12(1.905,-8.255) U13(3.175,-8.255) U14(4.445,-8.255) U15(5.715,-8.255) U16(6.985,-8.255) U17(8.255,-8.255) U18(9.525,-8.255) U19(10.795,-8.255) U20(12.065,-8.255) V1(-12.065,-9.525) V2(-10.795,-9.525) V3(-9.525,-9.525) V4(-8.255,-9.525) V5(-6.985,-9.525) V6(-5.715,-9.525) V7(-4.445,-9.525) V8(-3.175,-9.525) V9(-1.905,-9.525) V10(-0.635,-9.525) V11(0.635,-9.525) V12(1.905,-9.525) V13(3.175,-9.525) V14(4.445,-9.525) V15(5.715,-9.525) V16(6.985,-9.525) V17(8.255,-9.525) V18(9.525,-9.525) V19(10.795,-9.525) V20(12.065,-9.525) W1(-12.065,-10.795) W2(-10.795,-10.795) W3(-9.525,-10.795) W4(-8.255,-10.795) W5(-6.985,-10.795) W6(-5.715,-10.795) W7(-4.445,-10.795) W8(-3.175,-10.795) W9(-1.905,-10.795) W10(-0.635,-10.795) W11(0.635,-10.795) W12(1.905,-10.795) W13(3.175,-10.795) W14(4.445,-10.795) W15(5.715,-10.795) W16(6.985,-10.795) W17(8.255,-10.795) W18(9.525,-10.795) W19(10.795,-10.795) W20(12.065,-10.795) Y1(-12.065,-12.065) Y2(-10.795,-12.065) Y3(-9.525,-12.065) Y4(-8.255,-12.065) Y5(-6.985,-12.065) Y6(-5.715,-12.065) Y7(-4.445,-12.065) Y8(-3.175,-12.065) Y9(-1.905,-12.065) Y10(-0.635,-12.065) Y11(0.635,-12.065) Y12(1.905,-12.065) Y13(3.175,-12.065) Y14(4.445,-12.065) Y15(5.715,-12.065) Y16(6.985,-12.065) Y17(8.255,-12.065) Y18(9.525,-12.065) Y19(10.795,-12.065) Y20(12.065,-12.065)
Top Overlay:
  circle w0.25: c-14.15,12.065 r0.125
  region: -12.5,13.5 -13.5,12.5 -13.5,13.5
  lines w0.2: -13.5,12.5 -12.5,13.5 ; -13.5,-13.5 -13.5,13.5 13.5,13.5 13.5,-13.5 -13.5,-13.5
Mechanical 13:
  lines w0.1: -13.5,-13.5 -13.5,13.5 13.5,13.5 13.5,-13.5 -13.5,-13.5
Mechanical 15:
  lines w0.1: -0.5,0 0.5,0 ; 0,-0.5 0,0.5 ; -14.5,-14.5 -14.5,14.5 14.5,14.5 14.5,-14.5 -14.5,-14.5
3D body: height 2.32, standoff 0, extent -13.5,-13.5 13.5,13.5